# Altium footprint library Connector_FFC-FPC.PcbLib: 372 footprints (part 7 of 24)
Each footprint in its own frame and in the unit in brackets; x right, y up, seen from the top. Pads: shape width x height; smd on the part's side, far side on the other; paste and mask are expansions set on the pad; w line width, h text height; cw(c..) or ccw(c..) is an arc to the next point about the centre after c.
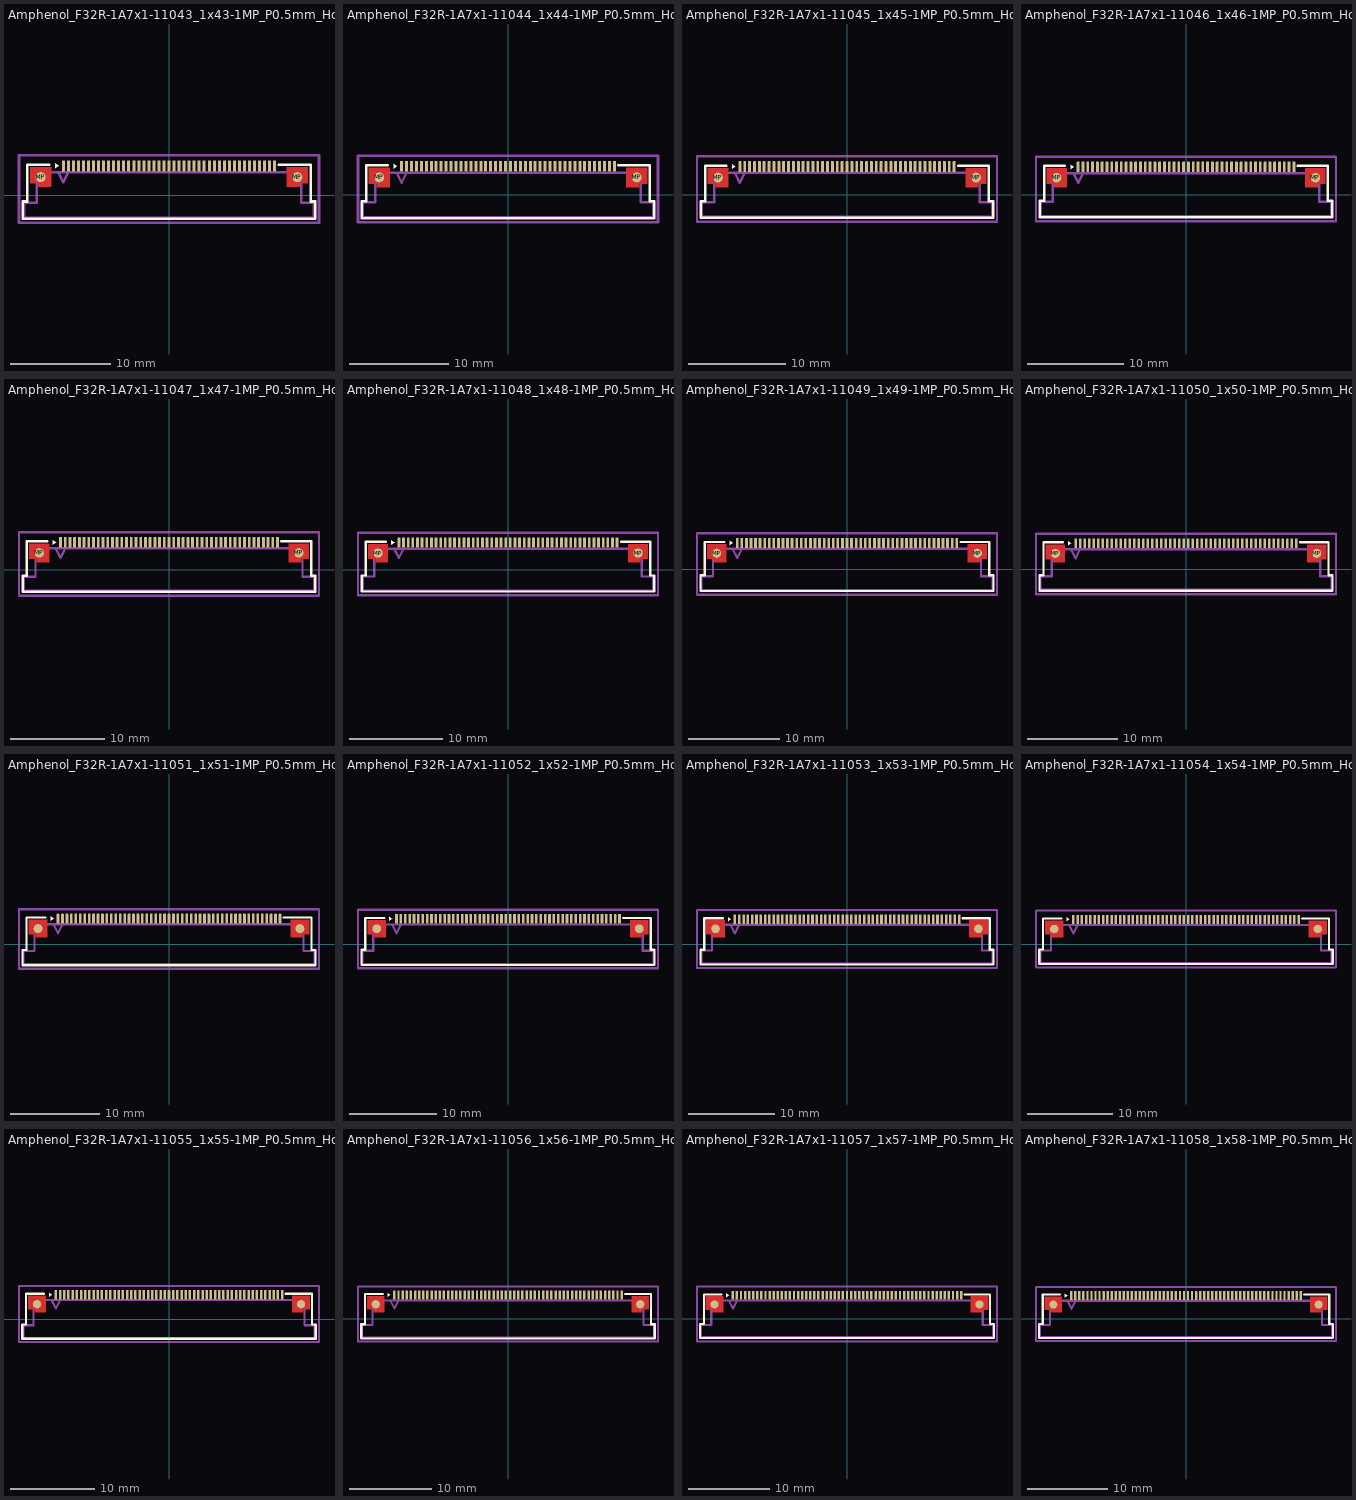
[diagram p6: the footprints below, top view; thin cyan lines are the x and y axes]

## Amphenol_F32R-1A7x1-11043_1x43-1MP_P0.5mm_Horizontal [mm]
pads (45):
  rrect25% 0.3x1.1 smd: 1(-10.5,2.9) 2(-10,2.9) 3(-9.5,2.9) 4(-9,2.9) 5(-8.5,2.9) 6(-8,2.9) 7(-7.5,2.9) 8(-7,2.9) 9(-6.5,2.9) 10(-6,2.9) 11(-5.5,2.9) 12(-5,2.9) 13(-4.5,2.9) 14(-4,2.9) 15(-3.5,2.9) 16(-3,2.9) 17(-2.5,2.9) 18(-2,2.9) 19(-1.5,2.9) 20(-1,2.9) 21(-0.5,2.9) 22(0,2.9) 23(0.5,2.9) 24(1,2.9) 25(1.5,2.9) 26(2,2.9) 27(2.5,2.9) 28(3,2.9) 29(3.5,2.9) 30(4,2.9) 31(4.5,2.9) 32(5,2.9) 33(5.5,2.9) 34(6,2.9) 35(6.5,2.9) 36(7,2.9) 37(7.5,2.9) 38(8,2.9) 39(8.5,2.9) 40(9,2.9) 41(9.5,2.9) 42(10,2.9) 43(10.5,2.9)
  round 1 smd: MP(-12.75,1.775) MP(12.75,1.775)
F.Cu:
  region: 13.8,1.15 13,1.15 13,0.8 11.7,0.8 11.7,2.75 13.8,2.75
  region: -11.7,0.8 -13,0.8 -13,1.15 -13.8,1.15 -13.8,2.75 -11.7,2.75
F.SilkS:
  region: -10.97,2.9 -11.3,2.66 -11.3,3.14
  lines w0.254: -11.91,3.01 -14.06,3.01 -14.06,-0.64 -14.51,-0.64 -14.51,-2.36 14.51,-2.36 14.51,-0.64 14.06,-0.64 14.06,3.01 10.91,3.01
F.Paste:
  region: 13.8,1.15 13,1.15 13,0.8 11.7,0.8 11.7,2.75 13.8,2.75
  region: -11.7,0.8 -13,0.8 -13,1.15 -13.8,1.15 -13.8,2.75 -11.7,2.75
F.Mask:
  region: 13.8,1.15 13,1.15 13,0.8 11.7,0.8 11.7,2.75 13.8,2.75
  region: -11.7,0.8 -13,0.8 -13,1.15 -13.8,1.15 -13.8,2.75 -11.7,2.75
Top Assembly:
  lines w0.254: -11,2.25 -10.5,1.25 -10,2.25 ; -14.4,-2.25 14.4,-2.25 14.4,-0.75 13.15,-0.75 13.15,2.25 -13.15,2.25 -13.15,-0.75 -14.4,-0.75 -14.4,-2.25
  text "'.Designator'" at -4.047,-0.84 h1
Top Courtyard:
  lines w0.254: -14.9,-2.75 14.9,-2.75 14.9,3.95 -14.9,3.95 -14.9,-2.75
Top Designator:
  text ".Designator" at -7.618,0.092 h1.52

## Amphenol_F32R-1A7x1-11044_1x44-1MP_P0.5mm_Horizontal [mm]
pads (46):
  rrect25% 0.3x1.1 smd: 1(-10.75,2.9) 2(-10.25,2.9) 3(-9.75,2.9) 4(-9.25,2.9) 5(-8.75,2.9) 6(-8.25,2.9) 7(-7.75,2.9) 8(-7.25,2.9) 9(-6.75,2.9) 10(-6.25,2.9) 11(-5.75,2.9) 12(-5.25,2.9) 13(-4.75,2.9) 14(-4.25,2.9) 15(-3.75,2.9) 16(-3.25,2.9) 17(-2.75,2.9) 18(-2.25,2.9) 19(-1.75,2.9) 20(-1.25,2.9) 21(-0.75,2.9) 22(-0.25,2.9) 23(0.25,2.9) 24(0.75,2.9) 25(1.25,2.9) 26(1.75,2.9) 27(2.25,2.9) 28(2.75,2.9) 29(3.25,2.9) 30(3.75,2.9) 31(4.25,2.9) 32(4.75,2.9) 33(5.25,2.9) 34(5.75,2.9) 35(6.25,2.9) 36(6.75,2.9) 37(7.25,2.9) 38(7.75,2.9) 39(8.25,2.9) 40(8.75,2.9) 41(9.25,2.9) 42(9.75,2.9) 43(10.25,2.9) 44(10.75,2.9)
  round 1 smd: MP(-13,1.775) MP(13,1.775)
F.Cu:
  region: 14.05,1.15 13.25,1.15 13.25,0.8 11.95,0.8 11.95,2.75 14.05,2.75
  region: -11.95,0.8 -13.25,0.8 -13.25,1.15 -14.05,1.15 -14.05,2.75 -11.95,2.75
F.SilkS:
  region: -11.22,2.9 -11.55,2.66 -11.55,3.14
  lines w0.254: -12.16,3.01 -14.31,3.01 -14.31,-0.64 -14.76,-0.64 -14.76,-2.36 14.76,-2.36 14.76,-0.64 14.31,-0.64 14.31,3.01 11.16,3.01
F.Paste:
  region: 14.05,1.15 13.25,1.15 13.25,0.8 11.95,0.8 11.95,2.75 14.05,2.75
  region: -11.95,0.8 -13.25,0.8 -13.25,1.15 -14.05,1.15 -14.05,2.75 -11.95,2.75
F.Mask:
  region: 14.05,1.15 13.25,1.15 13.25,0.8 11.95,0.8 11.95,2.75 14.05,2.75
  region: -11.95,0.8 -13.25,0.8 -13.25,1.15 -14.05,1.15 -14.05,2.75 -11.95,2.75
Top Assembly:
  lines w0.254: -11.25,2.25 -10.75,1.25 -10.25,2.25 ; -14.65,-2.25 14.65,-2.25 14.65,-0.75 13.4,-0.75 13.4,2.25 -13.4,2.25 -13.4,-0.75 -14.65,-0.75 -14.65,-2.25
  text "'.Designator'" at -4.047,-0.84 h1
Top Courtyard:
  lines w0.254: -15.15,-2.75 15.15,-2.75 15.15,3.95 -15.15,3.95 -15.15,-2.75
Top Designator:
  text ".Designator" at -7.618,0.092 h1.52

## Amphenol_F32R-1A7x1-11045_1x45-1MP_P0.5mm_Horizontal [mm]
pads (47):
  rrect25% 0.3x1.1 smd: 1(-11,2.9) 2(-10.5,2.9) 3(-10,2.9) 4(-9.5,2.9) 5(-9,2.9) 6(-8.5,2.9) 7(-8,2.9) 8(-7.5,2.9) 9(-7,2.9) 10(-6.5,2.9) 11(-6,2.9) 12(-5.5,2.9) 13(-5,2.9) 14(-4.5,2.9) 15(-4,2.9) 16(-3.5,2.9) 17(-3,2.9) 18(-2.5,2.9) 19(-2,2.9) 20(-1.5,2.9) 21(-1,2.9) 22(-0.5,2.9) 23(0,2.9) 24(0.5,2.9) 25(1,2.9) 26(1.5,2.9) 27(2,2.9) 28(2.5,2.9) 29(3,2.9) 30(3.5,2.9) 31(4,2.9) 32(4.5,2.9) 33(5,2.9) 34(5.5,2.9) 35(6,2.9) 36(6.5,2.9) 37(7,2.9) 38(7.5,2.9) 39(8,2.9) 40(8.5,2.9) 41(9,2.9) 42(9.5,2.9) 43(10,2.9) 44(10.5,2.9) 45(11,2.9)
  round 1 smd: MP(-13.25,1.775) MP(13.25,1.775)
F.Cu:
  region: 14.3,1.15 13.5,1.15 13.5,0.8 12.2,0.8 12.2,2.75 14.3,2.75
  region: -12.2,0.8 -13.5,0.8 -13.5,1.15 -14.3,1.15 -14.3,2.75 -12.2,2.75
F.SilkS:
  region: -11.47,2.9 -11.8,2.66 -11.8,3.14
  lines w0.254: -12.41,3.01 -14.56,3.01 -14.56,-0.64 -15.01,-0.64 -15.01,-2.36 15.01,-2.36 15.01,-0.64 14.56,-0.64 14.56,3.01 11.41,3.01
F.Paste:
  region: 14.3,1.15 13.5,1.15 13.5,0.8 12.2,0.8 12.2,2.75 14.3,2.75
  region: -12.2,0.8 -13.5,0.8 -13.5,1.15 -14.3,1.15 -14.3,2.75 -12.2,2.75
F.Mask:
  region: 14.3,1.15 13.5,1.15 13.5,0.8 12.2,0.8 12.2,2.75 14.3,2.75
  region: -12.2,0.8 -13.5,0.8 -13.5,1.15 -14.3,1.15 -14.3,2.75 -12.2,2.75
Top Assembly:
  lines w0.254: -11.5,2.25 -11,1.25 -10.5,2.25 ; -14.9,-2.25 14.9,-2.25 14.9,-0.75 13.65,-0.75 13.65,2.25 -13.65,2.25 -13.65,-0.75 -14.9,-0.75 -14.9,-2.25
  text "'.Designator'" at -4.047,-0.84 h1
Top Courtyard:
  lines w0.254: -15.4,-2.75 15.4,-2.75 15.4,3.95 -15.4,3.95 -15.4,-2.75
Top Designator:
  text ".Designator" at -7.618,0.092 h1.52

## Amphenol_F32R-1A7x1-11046_1x46-1MP_P0.5mm_Horizontal [mm]
pads (48):
  rrect25% 0.3x1.1 smd: 1(-11.25,2.9) 2(-10.75,2.9) 3(-10.25,2.9) 4(-9.75,2.9) 5(-9.25,2.9) 6(-8.75,2.9) 7(-8.25,2.9) 8(-7.75,2.9) 9(-7.25,2.9) 10(-6.75,2.9) 11(-6.25,2.9) 12(-5.75,2.9) 13(-5.25,2.9) 14(-4.75,2.9) 15(-4.25,2.9) 16(-3.75,2.9) 17(-3.25,2.9) 18(-2.75,2.9) 19(-2.25,2.9) 20(-1.75,2.9) 21(-1.25,2.9) 22(-0.75,2.9) 23(-0.25,2.9) 24(0.25,2.9) 25(0.75,2.9) 26(1.25,2.9) 27(1.75,2.9) 28(2.25,2.9) 29(2.75,2.9) 30(3.25,2.9) 31(3.75,2.9) 32(4.25,2.9) 33(4.75,2.9) 34(5.25,2.9) 35(5.75,2.9) 36(6.25,2.9) 37(6.75,2.9) 38(7.25,2.9) 39(7.75,2.9) 40(8.25,2.9) 41(8.75,2.9) 42(9.25,2.9) 43(9.75,2.9) 44(10.25,2.9) 45(10.75,2.9) 46(11.25,2.9)
  round 1 smd: MP(-13.5,1.775) MP(13.5,1.775)
F.Cu:
  region: 14.55,1.15 13.75,1.15 13.75,0.8 12.45,0.8 12.45,2.75 14.55,2.75
  region: -12.45,0.8 -13.75,0.8 -13.75,1.15 -14.55,1.15 -14.55,2.75 -12.45,2.75
F.SilkS:
  region: -11.72,2.9 -12.05,2.66 -12.05,3.14
  lines w0.254: -12.66,3.01 -14.81,3.01 -14.81,-0.64 -15.26,-0.64 -15.26,-2.36 15.26,-2.36 15.26,-0.64 14.81,-0.64 14.81,3.01 11.66,3.01
F.Paste:
  region: 14.55,1.15 13.75,1.15 13.75,0.8 12.45,0.8 12.45,2.75 14.55,2.75
  region: -12.45,0.8 -13.75,0.8 -13.75,1.15 -14.55,1.15 -14.55,2.75 -12.45,2.75
F.Mask:
  region: 14.55,1.15 13.75,1.15 13.75,0.8 12.45,0.8 12.45,2.75 14.55,2.75
  region: -12.45,0.8 -13.75,0.8 -13.75,1.15 -14.55,1.15 -14.55,2.75 -12.45,2.75
Top Assembly:
  lines w0.254: -11.75,2.25 -11.25,1.25 -10.75,2.25 ; -15.15,-2.25 15.15,-2.25 15.15,-0.75 13.9,-0.75 13.9,2.25 -13.9,2.25 -13.9,-0.75 -15.15,-0.75 -15.15,-2.25
  text "'.Designator'" at -4.047,-0.84 h1
Top Courtyard:
  lines w0.254: -15.65,-2.75 15.65,-2.75 15.65,3.95 -15.65,3.95 -15.65,-2.75
Top Designator:
  text ".Designator" at -7.618,0.092 h1.52

## Amphenol_F32R-1A7x1-11047_1x47-1MP_P0.5mm_Horizontal [mm]
pads (49):
  rrect25% 0.3x1.1 smd: 1(-11.5,2.9) 2(-11,2.9) 3(-10.5,2.9) 4(-10,2.9) 5(-9.5,2.9) 6(-9,2.9) 7(-8.5,2.9) 8(-8,2.9) 9(-7.5,2.9) 10(-7,2.9) 11(-6.5,2.9) 12(-6,2.9) 13(-5.5,2.9) 14(-5,2.9) 15(-4.5,2.9) 16(-4,2.9) 17(-3.5,2.9) 18(-3,2.9) 19(-2.5,2.9) 20(-2,2.9) 21(-1.5,2.9) 22(-1,2.9) 23(-0.5,2.9) 24(0,2.9) 25(0.5,2.9) 26(1,2.9) 27(1.5,2.9) 28(2,2.9) 29(2.5,2.9) 30(3,2.9) 31(3.5,2.9) 32(4,2.9) 33(4.5,2.9) 34(5,2.9) 35(5.5,2.9) 36(6,2.9) 37(6.5,2.9) 38(7,2.9) 39(7.5,2.9) 40(8,2.9) 41(8.5,2.9) 42(9,2.9) 43(9.5,2.9) 44(10,2.9) 45(10.5,2.9) 46(11,2.9) 47(11.5,2.9)
  round 1 smd: MP(-13.75,1.775) MP(13.75,1.775)
F.Cu:
  region: 14.8,1.15 14,1.15 14,0.8 12.7,0.8 12.7,2.75 14.8,2.75
  region: -12.7,0.8 -14,0.8 -14,1.15 -14.8,1.15 -14.8,2.75 -12.7,2.75
F.SilkS:
  region: -11.97,2.9 -12.3,2.66 -12.3,3.14
  lines w0.254: -12.91,3.01 -15.06,3.01 -15.06,-0.64 -15.51,-0.64 -15.51,-2.36 15.51,-2.36 15.51,-0.64 15.06,-0.64 15.06,3.01 11.91,3.01
F.Paste:
  region: 14.8,1.15 14,1.15 14,0.8 12.7,0.8 12.7,2.75 14.8,2.75
  region: -12.7,0.8 -14,0.8 -14,1.15 -14.8,1.15 -14.8,2.75 -12.7,2.75
F.Mask:
  region: 14.8,1.15 14,1.15 14,0.8 12.7,0.8 12.7,2.75 14.8,2.75
  region: -12.7,0.8 -14,0.8 -14,1.15 -14.8,1.15 -14.8,2.75 -12.7,2.75
Top Assembly:
  lines w0.254: -12,2.25 -11.5,1.25 -11,2.25 ; -15.4,-2.25 15.4,-2.25 15.4,-0.75 14.15,-0.75 14.15,2.25 -14.15,2.25 -14.15,-0.75 -15.4,-0.75 -15.4,-2.25
  text "'.Designator'" at -4.047,-0.84 h1
Top Courtyard:
  lines w0.254: -15.9,-2.75 15.9,-2.75 15.9,3.95 -15.9,3.95 -15.9,-2.75
Top Designator:
  text ".Designator" at -7.618,0.092 h1.52

## Amphenol_F32R-1A7x1-11048_1x48-1MP_P0.5mm_Horizontal [mm]
pads (50):
  rrect25% 0.3x1.1 smd: 1(-11.75,2.9) 2(-11.25,2.9) 3(-10.75,2.9) 4(-10.25,2.9) 5(-9.75,2.9) 6(-9.25,2.9) 7(-8.75,2.9) 8(-8.25,2.9) 9(-7.75,2.9) 10(-7.25,2.9) 11(-6.75,2.9) 12(-6.25,2.9) 13(-5.75,2.9) 14(-5.25,2.9) 15(-4.75,2.9) 16(-4.25,2.9) 17(-3.75,2.9) 18(-3.25,2.9) 19(-2.75,2.9) 20(-2.25,2.9) 21(-1.75,2.9) 22(-1.25,2.9) 23(-0.75,2.9) 24(-0.25,2.9) 25(0.25,2.9) 26(0.75,2.9) 27(1.25,2.9) 28(1.75,2.9) 29(2.25,2.9) 30(2.75,2.9) 31(3.25,2.9) 32(3.75,2.9) 33(4.25,2.9) 34(4.75,2.9) 35(5.25,2.9) 36(5.75,2.9) 37(6.25,2.9) 38(6.75,2.9) 39(7.25,2.9) 40(7.75,2.9) 41(8.25,2.9) 42(8.75,2.9) 43(9.25,2.9) 44(9.75,2.9) 45(10.25,2.9) 46(10.75,2.9) 47(11.25,2.9) 48(11.75,2.9)
  round 1 smd: MP(-14,1.775) MP(14,1.775)
F.Cu:
  region: 15.05,1.15 14.25,1.15 14.25,0.8 12.95,0.8 12.95,2.75 15.05,2.75
  region: -12.95,0.8 -14.25,0.8 -14.25,1.15 -15.05,1.15 -15.05,2.75 -12.95,2.75
F.SilkS:
  region: -12.22,2.9 -12.55,2.66 -12.55,3.14
  lines w0.254: -13.16,3.01 -15.31,3.01 -15.31,-0.64 -15.76,-0.64 -15.76,-2.36 15.76,-2.36 15.76,-0.64 15.31,-0.64 15.31,3.01 12.16,3.01
F.Paste:
  region: 15.05,1.15 14.25,1.15 14.25,0.8 12.95,0.8 12.95,2.75 15.05,2.75
  region: -12.95,0.8 -14.25,0.8 -14.25,1.15 -15.05,1.15 -15.05,2.75 -12.95,2.75
F.Mask:
  region: 15.05,1.15 14.25,1.15 14.25,0.8 12.95,0.8 12.95,2.75 15.05,2.75
  region: -12.95,0.8 -14.25,0.8 -14.25,1.15 -15.05,1.15 -15.05,2.75 -12.95,2.75
Top Assembly:
  lines w0.254: -12.25,2.25 -11.75,1.25 -11.25,2.25 ; -15.65,-2.25 15.65,-2.25 15.65,-0.75 14.4,-0.75 14.4,2.25 -14.4,2.25 -14.4,-0.75 -15.65,-0.75 -15.65,-2.25
  text "'.Designator'" at -4.047,-0.84 h1
Top Courtyard:
  lines w0.254: -16.15,-2.75 16.15,-2.75 16.15,3.95 -16.15,3.95 -16.15,-2.75
Top Designator:
  text ".Designator" at -7.618,0.092 h1.52

## Amphenol_F32R-1A7x1-11049_1x49-1MP_P0.5mm_Horizontal [mm]
pads (51):
  rrect25% 0.3x1.1 smd: 1(-12,2.9) 2(-11.5,2.9) 3(-11,2.9) 4(-10.5,2.9) 5(-10,2.9) 6(-9.5,2.9) 7(-9,2.9) 8(-8.5,2.9) 9(-8,2.9) 10(-7.5,2.9) 11(-7,2.9) 12(-6.5,2.9) 13(-6,2.9) 14(-5.5,2.9) 15(-5,2.9) 16(-4.5,2.9) 17(-4,2.9) 18(-3.5,2.9) 19(-3,2.9) 20(-2.5,2.9) 21(-2,2.9) 22(-1.5,2.9) 23(-1,2.9) 24(-0.5,2.9) 25(0,2.9) 26(0.5,2.9) 27(1,2.9) 28(1.5,2.9) 29(2,2.9) 30(2.5,2.9) 31(3,2.9) 32(3.5,2.9) 33(4,2.9) 34(4.5,2.9) 35(5,2.9) 36(5.5,2.9) 37(6,2.9) 38(6.5,2.9) 39(7,2.9) 40(7.5,2.9) 41(8,2.9) 42(8.5,2.9) 43(9,2.9) 44(9.5,2.9) 45(10,2.9) 46(10.5,2.9) 47(11,2.9) 48(11.5,2.9) 49(12,2.9)
  round 1 smd: MP(-14.25,1.775) MP(14.25,1.775)
F.Cu:
  region: 15.3,1.15 14.5,1.15 14.5,0.8 13.2,0.8 13.2,2.75 15.3,2.75
  region: -13.2,0.8 -14.5,0.8 -14.5,1.15 -15.3,1.15 -15.3,2.75 -13.2,2.75
F.SilkS:
  region: -12.47,2.9 -12.8,2.66 -12.8,3.14
  lines w0.254: -13.41,3.01 -15.56,3.01 -15.56,-0.64 -16.01,-0.64 -16.01,-2.36 16.01,-2.36 16.01,-0.64 15.56,-0.64 15.56,3.01 12.41,3.01
F.Paste:
  region: 15.3,1.15 14.5,1.15 14.5,0.8 13.2,0.8 13.2,2.75 15.3,2.75
  region: -13.2,0.8 -14.5,0.8 -14.5,1.15 -15.3,1.15 -15.3,2.75 -13.2,2.75
F.Mask:
  region: 15.3,1.15 14.5,1.15 14.5,0.8 13.2,0.8 13.2,2.75 15.3,2.75
  region: -13.2,0.8 -14.5,0.8 -14.5,1.15 -15.3,1.15 -15.3,2.75 -13.2,2.75
Top Assembly:
  lines w0.254: -12.5,2.25 -12,1.25 -11.5,2.25 ; -15.9,-2.25 15.9,-2.25 15.9,-0.75 14.65,-0.75 14.65,2.25 -14.65,2.25 -14.65,-0.75 -15.9,-0.75 -15.9,-2.25
  text "'.Designator'" at -4.047,-0.84 h1
Top Courtyard:
  lines w0.254: -16.4,-2.75 16.4,-2.75 16.4,3.95 -16.4,3.95 -16.4,-2.75
Top Designator:
  text ".Designator" at -7.618,0.092 h1.52

## Amphenol_F32R-1A7x1-11050_1x50-1MP_P0.5mm_Horizontal [mm]
pads (52):
  rrect25% 0.3x1.1 smd: 1(-12.25,2.9) 2(-11.75,2.9) 3(-11.25,2.9) 4(-10.75,2.9) 5(-10.25,2.9) 6(-9.75,2.9) 7(-9.25,2.9) 8(-8.75,2.9) 9(-8.25,2.9) 10(-7.75,2.9) 11(-7.25,2.9) 12(-6.75,2.9) 13(-6.25,2.9) 14(-5.75,2.9) 15(-5.25,2.9) 16(-4.75,2.9) 17(-4.25,2.9) 18(-3.75,2.9) 19(-3.25,2.9) 20(-2.75,2.9) 21(-2.25,2.9) 22(-1.75,2.9) 23(-1.25,2.9) 24(-0.75,2.9) 25(-0.25,2.9) 26(0.25,2.9) 27(0.75,2.9) 28(1.25,2.9) 29(1.75,2.9) 30(2.25,2.9) 31(2.75,2.9) 32(3.25,2.9) 33(3.75,2.9) 34(4.25,2.9) 35(4.75,2.9) 36(5.25,2.9) 37(5.75,2.9) 38(6.25,2.9) 39(6.75,2.9) 40(7.25,2.9) 41(7.75,2.9) 42(8.25,2.9) 43(8.75,2.9) 44(9.25,2.9) 45(9.75,2.9) 46(10.25,2.9) 47(10.75,2.9) 48(11.25,2.9) 49(11.75,2.9) 50(12.25,2.9)
  round 1 smd: MP(-14.5,1.775) MP(14.5,1.775)
F.Cu:
  region: 15.55,1.15 14.75,1.15 14.75,0.8 13.45,0.8 13.45,2.75 15.55,2.75
  region: -13.45,0.8 -14.75,0.8 -14.75,1.15 -15.55,1.15 -15.55,2.75 -13.45,2.75
F.SilkS:
  region: -12.72,2.9 -13.05,2.66 -13.05,3.14
  lines w0.254: -13.66,3.01 -15.81,3.01 -15.81,-0.64 -16.26,-0.64 -16.26,-2.36 16.26,-2.36 16.26,-0.64 15.81,-0.64 15.81,3.01 12.66,3.01
F.Paste:
  region: 15.55,1.15 14.75,1.15 14.75,0.8 13.45,0.8 13.45,2.75 15.55,2.75
  region: -13.45,0.8 -14.75,0.8 -14.75,1.15 -15.55,1.15 -15.55,2.75 -13.45,2.75
F.Mask:
  region: 15.55,1.15 14.75,1.15 14.75,0.8 13.45,0.8 13.45,2.75 15.55,2.75
  region: -13.45,0.8 -14.75,0.8 -14.75,1.15 -15.55,1.15 -15.55,2.75 -13.45,2.75
Top Assembly:
  lines w0.254: -12.75,2.25 -12.25,1.25 -11.75,2.25 ; -16.15,-2.25 16.15,-2.25 16.15,-0.75 14.9,-0.75 14.9,2.25 -14.9,2.25 -14.9,-0.75 -16.15,-0.75 -16.15,-2.25
  text "'.Designator'" at -4.047,-0.84 h1
Top Courtyard:
  lines w0.254: -16.65,-2.75 16.65,-2.75 16.65,3.95 -16.65,3.95 -16.65,-2.75
Top Designator:
  text ".Designator" at -7.618,0.092 h1.52

## Amphenol_F32R-1A7x1-11051_1x51-1MP_P0.5mm_Horizontal [mm]
pads (53):
  rrect25% 0.3x1.1 smd: 1(-12.5,2.9) 2(-12,2.9) 3(-11.5,2.9) 4(-11,2.9) 5(-10.5,2.9) 6(-10,2.9) 7(-9.5,2.9) 8(-9,2.9) 9(-8.5,2.9) 10(-8,2.9) 11(-7.5,2.9) 12(-7,2.9) 13(-6.5,2.9) 14(-6,2.9) 15(-5.5,2.9) 16(-5,2.9) 17(-4.5,2.9) 18(-4,2.9) 19(-3.5,2.9) 20(-3,2.9) 21(-2.5,2.9) 22(-2,2.9) 23(-1.5,2.9) 24(-1,2.9) 25(-0.5,2.9) 26(0,2.9) 27(0.5,2.9) 28(1,2.9) 29(1.5,2.9) 30(2,2.9) 31(2.5,2.9) 32(3,2.9) 33(3.5,2.9) 34(4,2.9) 35(4.5,2.9) 36(5,2.9) 37(5.5,2.9) 38(6,2.9) 39(6.5,2.9) 40(7,2.9) 41(7.5,2.9) 42(8,2.9) 43(8.5,2.9) 44(9,2.9) 45(9.5,2.9) 46(10,2.9) 47(10.5,2.9) 48(11,2.9) 49(11.5,2.9) 50(12,2.9) 51(12.5,2.9)
  round 1 smd: MP(-14.75,1.775) MP(14.75,1.775)
F.Cu:
  region: 15.8,1.15 15,1.15 15,0.8 13.7,0.8 13.7,2.75 15.8,2.75
  region: -13.7,0.8 -15,0.8 -15,1.15 -15.8,1.15 -15.8,2.75 -13.7,2.75
F.SilkS:
  region: -12.97,2.9 -13.3,2.66 -13.3,3.14
  lines w0.254: -13.91,3.01 -16.06,3.01 -16.06,-0.64 -16.51,-0.64 -16.51,-2.36 16.51,-2.36 16.51,-0.64 16.06,-0.64 16.06,3.01 12.91,3.01
F.Paste:
  region: 15.8,1.15 15,1.15 15,0.8 13.7,0.8 13.7,2.75 15.8,2.75
  region: -13.7,0.8 -15,0.8 -15,1.15 -15.8,1.15 -15.8,2.75 -13.7,2.75
F.Mask:
  region: 15.8,1.15 15,1.15 15,0.8 13.7,0.8 13.7,2.75 15.8,2.75
  region: -13.7,0.8 -15,0.8 -15,1.15 -15.8,1.15 -15.8,2.75 -13.7,2.75
Top Assembly:
  lines w0.254: -13,2.25 -12.5,1.25 -12,2.25 ; -16.4,-2.25 16.4,-2.25 16.4,-0.75 15.15,-0.75 15.15,2.25 -15.15,2.25 -15.15,-0.75 -16.4,-0.75 -16.4,-2.25
  text "'.Designator'" at -4.047,-0.84 h1
Top Courtyard:
  lines w0.254: -16.9,-2.75 16.9,-2.75 16.9,3.95 -16.9,3.95 -16.9,-2.75
Top Designator:
  text ".Designator" at -7.618,0.092 h1.52

## Amphenol_F32R-1A7x1-11052_1x52-1MP_P0.5mm_Horizontal [mm]
pads (54):
  rrect25% 0.3x1.1 smd: 1(-12.75,2.9) 2(-12.25,2.9) 3(-11.75,2.9) 4(-11.25,2.9) 5(-10.75,2.9) 6(-10.25,2.9) 7(-9.75,2.9) 8(-9.25,2.9) 9(-8.75,2.9) 10(-8.25,2.9) 11(-7.75,2.9) 12(-7.25,2.9) 13(-6.75,2.9) 14(-6.25,2.9) 15(-5.75,2.9) 16(-5.25,2.9) 17(-4.75,2.9) 18(-4.25,2.9) 19(-3.75,2.9) 20(-3.25,2.9) 21(-2.75,2.9) 22(-2.25,2.9) 23(-1.75,2.9) 24(-1.25,2.9) 25(-0.75,2.9) 26(-0.25,2.9) 27(0.25,2.9) 28(0.75,2.9) 29(1.25,2.9) 30(1.75,2.9) 31(2.25,2.9) 32(2.75,2.9) 33(3.25,2.9) 34(3.75,2.9) 35(4.25,2.9) 36(4.75,2.9) 37(5.25,2.9) 38(5.75,2.9) 39(6.25,2.9) 40(6.75,2.9) 41(7.25,2.9) 42(7.75,2.9) 43(8.25,2.9) 44(8.75,2.9) 45(9.25,2.9) 46(9.75,2.9) 47(10.25,2.9) 48(10.75,2.9) 49(11.25,2.9) 50(11.75,2.9) 51(12.25,2.9) 52(12.75,2.9)
  round 1 smd: MP(-15,1.775) MP(15,1.775)
F.Cu:
  region: 16.05,1.15 15.25,1.15 15.25,0.8 13.95,0.8 13.95,2.75 16.05,2.75
  region: -13.95,0.8 -15.25,0.8 -15.25,1.15 -16.05,1.15 -16.05,2.75 -13.95,2.75
F.SilkS:
  region: -13.22,2.9 -13.55,2.66 -13.55,3.14
  lines w0.254: -14.16,3.01 -16.31,3.01 -16.31,-0.64 -16.76,-0.64 -16.76,-2.36 16.76,-2.36 16.76,-0.64 16.31,-0.64 16.31,3.01 13.16,3.01
F.Paste:
  region: 16.05,1.15 15.25,1.15 15.25,0.8 13.95,0.8 13.95,2.75 16.05,2.75
  region: -13.95,0.8 -15.25,0.8 -15.25,1.15 -16.05,1.15 -16.05,2.75 -13.95,2.75
F.Mask:
  region: 16.05,1.15 15.25,1.15 15.25,0.8 13.95,0.8 13.95,2.75 16.05,2.75
  region: -13.95,0.8 -15.25,0.8 -15.25,1.15 -16.05,1.15 -16.05,2.75 -13.95,2.75
Top Assembly:
  lines w0.254: -13.25,2.25 -12.75,1.25 -12.25,2.25 ; -16.65,-2.25 16.65,-2.25 16.65,-0.75 15.4,-0.75 15.4,2.25 -15.4,2.25 -15.4,-0.75 -16.65,-0.75 -16.65,-2.25
  text "'.Designator'" at -4.047,-0.84 h1
Top Courtyard:
  lines w0.254: -17.15,-2.75 17.15,-2.75 17.15,3.95 -17.15,3.95 -17.15,-2.75
Top Designator:
  text ".Designator" at -7.618,0.092 h1.52

## Amphenol_F32R-1A7x1-11053_1x53-1MP_P0.5mm_Horizontal [mm]
pads (55):
  rrect25% 0.3x1.1 smd: 1(-13,2.9) 2(-12.5,2.9) 3(-12,2.9) 4(-11.5,2.9) 5(-11,2.9) 6(-10.5,2.9) 7(-10,2.9) 8(-9.5,2.9) 9(-9,2.9) 10(-8.5,2.9) 11(-8,2.9) 12(-7.5,2.9) 13(-7,2.9) 14(-6.5,2.9) 15(-6,2.9) 16(-5.5,2.9) 17(-5,2.9) 18(-4.5,2.9) 19(-4,2.9) 20(-3.5,2.9) 21(-3,2.9) 22(-2.5,2.9) 23(-2,2.9) 24(-1.5,2.9) 25(-1,2.9) 26(-0.5,2.9) 27(0,2.9) 28(0.5,2.9) 29(1,2.9) 30(1.5,2.9) 31(2,2.9) 32(2.5,2.9) 33(3,2.9) 34(3.5,2.9) 35(4,2.9) 36(4.5,2.9) 37(5,2.9) 38(5.5,2.9) 39(6,2.9) 40(6.5,2.9) 41(7,2.9) 42(7.5,2.9) 43(8,2.9) 44(8.5,2.9) 45(9,2.9) 46(9.5,2.9) 47(10,2.9) 48(10.5,2.9) 49(11,2.9) 50(11.5,2.9) 51(12,2.9) 52(12.5,2.9) 53(13,2.9)
  round 1 smd: MP(-15.25,1.775) MP(15.25,1.775)
F.Cu:
  region: 16.3,1.15 15.5,1.15 15.5,0.8 14.2,0.8 14.2,2.75 16.3,2.75
  region: -14.2,0.8 -15.5,0.8 -15.5,1.15 -16.3,1.15 -16.3,2.75 -14.2,2.75
F.SilkS:
  region: -13.47,2.9 -13.8,2.66 -13.8,3.14
  lines w0.254: -14.41,3.01 -16.56,3.01 -16.56,-0.64 -17.01,-0.64 -17.01,-2.36 17.01,-2.36 17.01,-0.64 16.56,-0.64 16.56,3.01 13.41,3.01
F.Paste:
  region: 16.3,1.15 15.5,1.15 15.5,0.8 14.2,0.8 14.2,2.75 16.3,2.75
  region: -14.2,0.8 -15.5,0.8 -15.5,1.15 -16.3,1.15 -16.3,2.75 -14.2,2.75
F.Mask:
  region: 16.3,1.15 15.5,1.15 15.5,0.8 14.2,0.8 14.2,2.75 16.3,2.75
  region: -14.2,0.8 -15.5,0.8 -15.5,1.15 -16.3,1.15 -16.3,2.75 -14.2,2.75
Top Assembly:
  lines w0.254: -13.5,2.25 -13,1.25 -12.5,2.25 ; -16.9,-2.25 16.9,-2.25 16.9,-0.75 15.65,-0.75 15.65,2.25 -15.65,2.25 -15.65,-0.75 -16.9,-0.75 -16.9,-2.25
  text "'.Designator'" at -4.047,-0.84 h1
Top Courtyard:
  lines w0.254: -17.4,-2.75 17.4,-2.75 17.4,3.95 -17.4,3.95 -17.4,-2.75
Top Designator:
  text ".Designator" at -7.618,0.092 h1.52

## Amphenol_F32R-1A7x1-11054_1x54-1MP_P0.5mm_Horizontal [mm]
pads (56):
  rrect25% 0.3x1.1 smd: 1(-13.25,2.9) 2(-12.75,2.9) 3(-12.25,2.9) 4(-11.75,2.9) 5(-11.25,2.9) 6(-10.75,2.9) 7(-10.25,2.9) 8(-9.75,2.9) 9(-9.25,2.9) 10(-8.75,2.9) 11(-8.25,2.9) 12(-7.75,2.9) 13(-7.25,2.9) 14(-6.75,2.9) 15(-6.25,2.9) 16(-5.75,2.9) 17(-5.25,2.9) 18(-4.75,2.9) 19(-4.25,2.9) 20(-3.75,2.9) 21(-3.25,2.9) 22(-2.75,2.9) 23(-2.25,2.9) 24(-1.75,2.9) 25(-1.25,2.9) 26(-0.75,2.9) 27(-0.25,2.9) 28(0.25,2.9) 29(0.75,2.9) 30(1.25,2.9) 31(1.75,2.9) 32(2.25,2.9) 33(2.75,2.9) 34(3.25,2.9) 35(3.75,2.9) 36(4.25,2.9) 37(4.75,2.9) 38(5.25,2.9) 39(5.75,2.9) 40(6.25,2.9) 41(6.75,2.9) 42(7.25,2.9) 43(7.75,2.9) 44(8.25,2.9) 45(8.75,2.9) 46(9.25,2.9) 47(9.75,2.9) 48(10.25,2.9) 49(10.75,2.9) 50(11.25,2.9) 51(11.75,2.9) 52(12.25,2.9) 53(12.75,2.9) 54(13.25,2.9)
  round 1 smd: MP(-15.5,1.775) MP(15.5,1.775)
F.Cu:
  region: 16.55,1.15 15.75,1.15 15.75,0.8 14.45,0.8 14.45,2.75 16.55,2.75
  region: -14.45,0.8 -15.75,0.8 -15.75,1.15 -16.55,1.15 -16.55,2.75 -14.45,2.75
F.SilkS:
  region: -13.72,2.9 -14.05,2.66 -14.05,3.14
  lines w0.254: -14.66,3.01 -16.81,3.01 -16.81,-0.64 -17.26,-0.64 -17.26,-2.36 17.26,-2.36 17.26,-0.64 16.81,-0.64 16.81,3.01 13.66,3.01
F.Paste:
  region: 16.55,1.15 15.75,1.15 15.75,0.8 14.45,0.8 14.45,2.75 16.55,2.75
  region: -14.45,0.8 -15.75,0.8 -15.75,1.15 -16.55,1.15 -16.55,2.75 -14.45,2.75
F.Mask:
  region: 16.55,1.15 15.75,1.15 15.75,0.8 14.45,0.8 14.45,2.75 16.55,2.75
  region: -14.45,0.8 -15.75,0.8 -15.75,1.15 -16.55,1.15 -16.55,2.75 -14.45,2.75
Top Assembly:
  lines w0.254: -13.75,2.25 -13.25,1.25 -12.75,2.25 ; -17.15,-2.25 17.15,-2.25 17.15,-0.75 15.9,-0.75 15.9,2.25 -15.9,2.25 -15.9,-0.75 -17.15,-0.75 -17.15,-2.25
  text "'.Designator'" at -4.047,-0.84 h1
Top Courtyard:
  lines w0.254: -17.65,-2.75 17.65,-2.75 17.65,3.95 -17.65,3.95 -17.65,-2.75
Top Designator:
  text ".Designator" at -7.618,0.092 h1.52

## Amphenol_F32R-1A7x1-11055_1x55-1MP_P0.5mm_Horizontal [mm]
pads (57):
  rrect25% 0.3x1.1 smd: 1(-13.5,2.9) 2(-13,2.9) 3(-12.5,2.9) 4(-12,2.9) 5(-11.5,2.9) 6(-11,2.9) 7(-10.5,2.9) 8(-10,2.9) 9(-9.5,2.9) 10(-9,2.9) 11(-8.5,2.9) 12(-8,2.9) 13(-7.5,2.9) 14(-7,2.9) 15(-6.5,2.9) 16(-6,2.9) 17(-5.5,2.9) 18(-5,2.9) 19(-4.5,2.9) 20(-4,2.9) 21(-3.5,2.9) 22(-3,2.9) 23(-2.5,2.9) 24(-2,2.9) 25(-1.5,2.9) 26(-1,2.9) 27(-0.5,2.9) 28(0,2.9) 29(0.5,2.9) 30(1,2.9) 31(1.5,2.9) 32(2,2.9) 33(2.5,2.9) 34(3,2.9) 35(3.5,2.9) 36(4,2.9) 37(4.5,2.9) 38(5,2.9) 39(5.5,2.9) 40(6,2.9) 41(6.5,2.9) 42(7,2.9) 43(7.5,2.9) 44(8,2.9) 45(8.5,2.9) 46(9,2.9) 47(9.5,2.9) 48(10,2.9) 49(10.5,2.9) 50(11,2.9) 51(11.5,2.9) 52(12,2.9) 53(12.5,2.9) 54(13,2.9) 55(13.5,2.9)
  round 1 smd: MP(-15.75,1.775) MP(15.75,1.775)
F.Cu:
  region: 16.8,1.15 16,1.15 16,0.8 14.7,0.8 14.7,2.75 16.8,2.75
  region: -14.7,0.8 -16,0.8 -16,1.15 -16.8,1.15 -16.8,2.75 -14.7,2.75
F.SilkS:
  region: -13.97,2.9 -14.3,2.66 -14.3,3.14
  lines w0.254: -14.91,3.01 -17.06,3.01 -17.06,-0.64 -17.51,-0.64 -17.51,-2.36 17.51,-2.36 17.51,-0.64 17.06,-0.64 17.06,3.01 13.91,3.01
F.Paste:
  region: 16.8,1.15 16,1.15 16,0.8 14.7,0.8 14.7,2.75 16.8,2.75
  region: -14.7,0.8 -16,0.8 -16,1.15 -16.8,1.15 -16.8,2.75 -14.7,2.75
F.Mask:
  region: 16.8,1.15 16,1.15 16,0.8 14.7,0.8 14.7,2.75 16.8,2.75
  region: -14.7,0.8 -16,0.8 -16,1.15 -16.8,1.15 -16.8,2.75 -14.7,2.75
Top Assembly:
  lines w0.254: -14,2.25 -13.5,1.25 -13,2.25 ; -17.4,-2.25 17.4,-2.25 17.4,-0.75 16.15,-0.75 16.15,2.25 -16.15,2.25 -16.15,-0.75 -17.4,-0.75 -17.4,-2.25
  text "'.Designator'" at -4.047,-0.84 h1
Top Courtyard:
  lines w0.254: -17.9,-2.75 17.9,-2.75 17.9,3.95 -17.9,3.95 -17.9,-2.75
Top Designator:
  text ".Designator" at -7.618,0.092 h1.52

## Amphenol_F32R-1A7x1-11056_1x56-1MP_P0.5mm_Horizontal [mm]
pads (58):
  rrect25% 0.3x1.1 smd: 1(-13.75,2.9) 2(-13.25,2.9) 3(-12.75,2.9) 4(-12.25,2.9) 5(-11.75,2.9) 6(-11.25,2.9) 7(-10.75,2.9) 8(-10.25,2.9) 9(-9.75,2.9) 10(-9.25,2.9) 11(-8.75,2.9) 12(-8.25,2.9) 13(-7.75,2.9) 14(-7.25,2.9) 15(-6.75,2.9) 16(-6.25,2.9) 17(-5.75,2.9) 18(-5.25,2.9) 19(-4.75,2.9) 20(-4.25,2.9) 21(-3.75,2.9) 22(-3.25,2.9) 23(-2.75,2.9) 24(-2.25,2.9) 25(-1.75,2.9) 26(-1.25,2.9) 27(-0.75,2.9) 28(-0.25,2.9) 29(0.25,2.9) 30(0.75,2.9) 31(1.25,2.9) 32(1.75,2.9) 33(2.25,2.9) 34(2.75,2.9) 35(3.25,2.9) 36(3.75,2.9) 37(4.25,2.9) 38(4.75,2.9) 39(5.25,2.9) 40(5.75,2.9) 41(6.25,2.9) 42(6.75,2.9) 43(7.25,2.9) 44(7.75,2.9) 45(8.25,2.9) 46(8.75,2.9) 47(9.25,2.9) 48(9.75,2.9) 49(10.25,2.9) 50(10.75,2.9) 51(11.25,2.9) 52(11.75,2.9) 53(12.25,2.9) 54(12.75,2.9) 55(13.25,2.9) 56(13.75,2.9)
  round 1 smd: MP(-16,1.775) MP(16,1.775)
F.Cu:
  region: 17.05,1.15 16.25,1.15 16.25,0.8 14.95,0.8 14.95,2.75 17.05,2.75
  region: -14.95,0.8 -16.25,0.8 -16.25,1.15 -17.05,1.15 -17.05,2.75 -14.95,2.75
F.SilkS:
  region: -14.22,2.9 -14.55,2.66 -14.55,3.14
  lines w0.254: -15.16,3.01 -17.31,3.01 -17.31,-0.64 -17.76,-0.64 -17.76,-2.36 17.76,-2.36 17.76,-0.64 17.31,-0.64 17.31,3.01 14.16,3.01
F.Paste:
  region: 17.05,1.15 16.25,1.15 16.25,0.8 14.95,0.8 14.95,2.75 17.05,2.75
  region: -14.95,0.8 -16.25,0.8 -16.25,1.15 -17.05,1.15 -17.05,2.75 -14.95,2.75
F.Mask:
  region: 17.05,1.15 16.25,1.15 16.25,0.8 14.95,0.8 14.95,2.75 17.05,2.75
  region: -14.95,0.8 -16.25,0.8 -16.25,1.15 -17.05,1.15 -17.05,2.75 -14.95,2.75
Top Assembly:
  lines w0.254: -14.25,2.25 -13.75,1.25 -13.25,2.25 ; -17.65,-2.25 17.65,-2.25 17.65,-0.75 16.4,-0.75 16.4,2.25 -16.4,2.25 -16.4,-0.75 -17.65,-0.75 -17.65,-2.25
  text "'.Designator'" at -4.047,-0.84 h1
Top Courtyard:
  lines w0.254: -18.15,-2.75 18.15,-2.75 18.15,3.95 -18.15,3.95 -18.15,-2.75
Top Designator:
  text ".Designator" at -7.618,0.092 h1.52

## Amphenol_F32R-1A7x1-11057_1x57-1MP_P0.5mm_Horizontal [mm]
pads (59):
  rrect25% 0.3x1.1 smd: 1(-14,2.9) 2(-13.5,2.9) 3(-13,2.9) 4(-12.5,2.9) 5(-12,2.9) 6(-11.5,2.9) 7(-11,2.9) 8(-10.5,2.9) 9(-10,2.9) 10(-9.5,2.9) 11(-9,2.9) 12(-8.5,2.9) 13(-8,2.9) 14(-7.5,2.9) 15(-7,2.9) 16(-6.5,2.9) 17(-6,2.9) 18(-5.5,2.9) 19(-5,2.9) 20(-4.5,2.9) 21(-4,2.9) 22(-3.5,2.9) 23(-3,2.9) 24(-2.5,2.9) 25(-2,2.9) 26(-1.5,2.9) 27(-1,2.9) 28(-0.5,2.9) 29(0,2.9) 30(0.5,2.9) 31(1,2.9) 32(1.5,2.9) 33(2,2.9) 34(2.5,2.9) 35(3,2.9) 36(3.5,2.9) 37(4,2.9) 38(4.5,2.9) 39(5,2.9) 40(5.5,2.9) 41(6,2.9) 42(6.5,2.9) 43(7,2.9) 44(7.5,2.9) 45(8,2.9) 46(8.5,2.9) 47(9,2.9) 48(9.5,2.9) 49(10,2.9) 50(10.5,2.9) 51(11,2.9) 52(11.5,2.9) 53(12,2.9) 54(12.5,2.9) 55(13,2.9) 56(13.5,2.9) 57(14,2.9)
  round 1 smd: MP(-16.25,1.775) MP(16.25,1.775)
F.Cu:
  region: 17.3,1.15 16.5,1.15 16.5,0.8 15.2,0.8 15.2,2.75 17.3,2.75
  region: -15.2,0.8 -16.5,0.8 -16.5,1.15 -17.3,1.15 -17.3,2.75 -15.2,2.75
F.SilkS:
  region: -14.47,2.9 -14.8,2.66 -14.8,3.14
  lines w0.254: -15.41,3.01 -17.56,3.01 -17.56,-0.64 -18.01,-0.64 -18.01,-2.36 18.01,-2.36 18.01,-0.64 17.56,-0.64 17.56,3.01 14.41,3.01
F.Paste:
  region: 17.3,1.15 16.5,1.15 16.5,0.8 15.2,0.8 15.2,2.75 17.3,2.75
  region: -15.2,0.8 -16.5,0.8 -16.5,1.15 -17.3,1.15 -17.3,2.75 -15.2,2.75
F.Mask:
  region: 17.3,1.15 16.5,1.15 16.5,0.8 15.2,0.8 15.2,2.75 17.3,2.75
  region: -15.2,0.8 -16.5,0.8 -16.5,1.15 -17.3,1.15 -17.3,2.75 -15.2,2.75
Top Assembly:
  lines w0.254: -14.5,2.25 -14,1.25 -13.5,2.25 ; -17.9,-2.25 17.9,-2.25 17.9,-0.75 16.65,-0.75 16.65,2.25 -16.65,2.25 -16.65,-0.75 -17.9,-0.75 -17.9,-2.25
  text "'.Designator'" at -4.047,-0.84 h1
Top Courtyard:
  lines w0.254: -18.4,-2.75 18.4,-2.75 18.4,3.95 -18.4,3.95 -18.4,-2.75
Top Designator:
  text ".Designator" at -7.618,0.092 h1.52

## Amphenol_F32R-1A7x1-11058_1x58-1MP_P0.5mm_Horizontal [mm]
pads (60):
  rrect25% 0.3x1.1 smd: 1(-14.25,2.9) 2(-13.75,2.9) 3(-13.25,2.9) 4(-12.75,2.9) 5(-12.25,2.9) 6(-11.75,2.9) 7(-11.25,2.9) 8(-10.75,2.9) 9(-10.25,2.9) 10(-9.75,2.9) 11(-9.25,2.9) 12(-8.75,2.9) 13(-8.25,2.9) 14(-7.75,2.9) 15(-7.25,2.9) 16(-6.75,2.9) 17(-6.25,2.9) 18(-5.75,2.9) 19(-5.25,2.9) 20(-4.75,2.9) 21(-4.25,2.9) 22(-3.75,2.9) 23(-3.25,2.9) 24(-2.75,2.9) 25(-2.25,2.9) 26(-1.75,2.9) 27(-1.25,2.9) 28(-0.75,2.9) 29(-0.25,2.9) 30(0.25,2.9) 31(0.75,2.9) 32(1.25,2.9) 33(1.75,2.9) 34(2.25,2.9) 35(2.75,2.9) 36(3.25,2.9) 37(3.75,2.9) 38(4.25,2.9) 39(4.75,2.9) 40(5.25,2.9) 41(5.75,2.9) 42(6.25,2.9) 43(6.75,2.9) 44(7.25,2.9) 45(7.75,2.9) 46(8.25,2.9) 47(8.75,2.9) 48(9.25,2.9) 49(9.75,2.9) 50(10.25,2.9) 51(10.75,2.9) 52(11.25,2.9) 53(11.75,2.9) 54(12.25,2.9) 55(12.75,2.9) 56(13.25,2.9) 57(13.75,2.9) 58(14.25,2.9)
  round 1 smd: MP(-16.5,1.775) MP(16.5,1.775)
F.Cu:
  region: 17.55,1.15 16.75,1.15 16.75,0.8 15.45,0.8 15.45,2.75 17.55,2.75
  region: -15.45,0.8 -16.75,0.8 -16.75,1.15 -17.55,1.15 -17.55,2.75 -15.45,2.75
F.SilkS:
  region: -14.72,2.9 -15.05,2.66 -15.05,3.14
  lines w0.254: -15.66,3.01 -17.81,3.01 -17.81,-0.64 -18.26,-0.64 -18.26,-2.36 18.26,-2.36 18.26,-0.64 17.81,-0.64 17.81,3.01 14.66,3.01
F.Paste:
  region: 17.55,1.15 16.75,1.15 16.75,0.8 15.45,0.8 15.45,2.75 17.55,2.75
  region: -15.45,0.8 -16.75,0.8 -16.75,1.15 -17.55,1.15 -17.55,2.75 -15.45,2.75
F.Mask:
  region: 17.55,1.15 16.75,1.15 16.75,0.8 15.45,0.8 15.45,2.75 17.55,2.75
  region: -15.45,0.8 -16.75,0.8 -16.75,1.15 -17.55,1.15 -17.55,2.75 -15.45,2.75
Top Assembly:
  lines w0.254: -14.75,2.25 -14.25,1.25 -13.75,2.25 ; -18.15,-2.25 18.15,-2.25 18.15,-0.75 16.9,-0.75 16.9,2.25 -16.9,2.25 -16.9,-0.75 -18.15,-0.75 -18.15,-2.25
  text "'.Designator'" at -4.047,-0.84 h1
Top Courtyard:
  lines w0.254: -18.65,-2.75 18.65,-2.75 18.65,3.95 -18.65,3.95 -18.65,-2.75
Top Designator:
  text ".Designator" at -7.618,0.092 h1.52